# EAGLE library part DOUBLE (library dec-con)
Double-Height DEC board
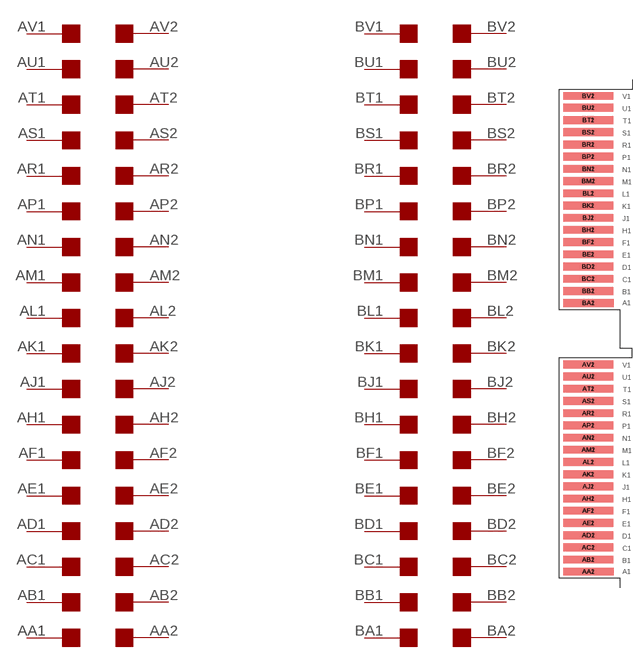
[diagram p5: symbol with the pads of EDGE-CON4; footprint EDGE-CON4]

Designator prefix -; gates AL2=EDGE-RIGHT AM2=EDGE-RIGHT AN2=EDGE-RIGHT AP2=EDGE-RIGHT AR2=EDGE-RIGHT AS2=EDGE-RIGHT AT2=EDGE-RIGHT AK2=EDGE-RIGHT AJ2=EDGE-RIGHT AH2=EDGE-RIGHT AF2=EDGE-RIGHT AE2=EDGE-RIGHT AD2=EDGE-RIGHT AC2=EDGE-RIGHT AU2=EDGE-RIGHT AV2=EDGE-RIGHT AB2=EDGE-RIGHT AA2=EDGE-RIGHT AK1=EDGE-LEFT AL1=EDGE-LEFT AM1=EDGE-LEFT AN1=EDGE-LEFT AP1=EDGE-LEFT AR1=EDGE-LEFT AS1=EDGE-LEFT AT1=EDGE-LEFT AU1=EDGE-LEFT AV1=EDGE-LEFT AJ1=EDGE-LEFT AH1=EDGE-LEFT AF1=EDGE-LEFT AE1=EDGE-LEFT AD1=EDGE-LEFT AC1=EDGE-LEFT AB1=EDGE-LEFT AA1=EDGE-LEFT BV1=EDGE-LEFT BU1=EDGE-LEFT BT1=EDGE-LEFT BS1=EDGE-LEFT BR1=EDGE-LEFT BP1=EDGE-LEFT BN1=EDGE-LEFT BM1=EDGE-LEFT BL1=EDGE-LEFT BK1=EDGE-LEFT BJ1=EDGE-LEFT BH1=EDGE-LEFT BF1=EDGE-LEFT BE1=EDGE-LEFT BD1=EDGE-LEFT BC1=EDGE-LEFT BB1=EDGE-LEFT BA1=EDGE-LEFT BV2=EDGE-RIGHT BU2=EDGE-RIGHT BT2=EDGE-RIGHT BS2=EDGE-RIGHT BR2=EDGE-RIGHT BP2=EDGE-RIGHT BN2=EDGE-RIGHT BM2=EDGE-RIGHT BL2=EDGE-RIGHT BK2=EDGE-RIGHT BJ2=EDGE-RIGHT BH2=EDGE-RIGHT BF2=EDGE-RIGHT BE2=EDGE-RIGHT BD2=EDGE-RIGHT BC2=EDGE-RIGHT BB2=EDGE-RIGHT BA2=EDGE-RIGHT

## DOUBLE  [EDGE-CON4]
AA1  AA1:1  pas
AA2  AA2:1  pas
AB1  AB1:1  pas
AB2  AB2:1  pas
AC1  AC1:1  pas
AC2  AC2:1  pas
AD1  AD1:1  pas
AD2  AD2:1  pas
AE1  AE1:1  pas
AE2  AE2:1  pas
AF1  AF1:1  pas
AF2  AF2:1  pas
AH1  AH1:1  pas
AH2  AH2:1  pas
AJ1  AJ1:1  pas
AJ2  AJ2:1  pas
AK1  AK1:1  pas
AK2  AK2:1  pas
AL1  AL1:1  pas
AL2  AL2:1  pas
AM1  AM1:1  pas
AM2  AM2:1  pas
AN1  AN1:1  pas
AN2  AN2:1  pas
AP1  AP1:1  pas
AP2  AP2:1  pas
AR1  AR1:1  pas
AR2  AR2:1  pas
AS1  AS1:1  pas
AS2  AS2:1  pas
AT1  AT1:1  pas
AT2  AT2:1  pas
AU1  AU1:1  pas
AU2  AU2:1  pas
AV1  AV1:1  pas
AV2  AV2:1  pas
BA1  BA1:1  pas
BA2  BA2:1  pas
BB1  BB1:1  pas
BB2  BB2:1  pas
BC1  BC1:1  pas
BC2  BC2:1  pas
BD1  BD1:1  pas
BD2  BD2:1  pas
BE1  BE1:1  pas
BE2  BE2:1  pas
BF1  BF1:1  pas
BF2  BF2:1  pas
BH1  BH1:1  pas
BH2  BH2:1  pas
BJ1  BJ1:1  pas
BJ2  BJ2:1  pas
BK1  BK1:1  pas
BK2  BK2:1  pas
BL1  BL1:1  pas
BL2  BL2:1  pas
BM1  BM1:1  pas
BM2  BM2:1  pas
BN1  BN1:1  pas
BN2  BN2:1  pas
BP1  BP1:1  pas
BP2  BP2:1  pas
BR1  BR1:1  pas
BR2  BR2:1  pas
BS1  BS1:1  pas
BS2  BS2:1  pas
BT1  BT1:1  pas
BT2  BT2:1  pas
BU1  BU1:1  pas
BU2  BU2:1  pas
BV1  BV1:1  pas
BV2  BV2:1  pas

## Footprint EDGE-CON4 (pad centres in mm)
Double-Height DEC board
smd 13.017 x 2.032: AA1 7.709,4.207; AB1 7.684,7.312; AC1 7.684,10.474; AD1 7.684,13.665; AE1 7.693,16.84; AF1 7.668,20.041; AH1 7.668,23.19; AJ1 7.668,26.34; AK1 7.668,29.515; AL1 7.693,32.69; AM1 7.693,35.89; AN1 7.693,39.04; AP1 7.668,42.24; AR1 7.668,45.39; AS1 7.693,48.565; AT1 7.693,51.74; AU1 7.693,54.94; AV1 7.668,58.026; BA1 7.709,74.057; BB1 7.684,77.162; BC1 7.684,80.324; BD1 7.684,83.515; BE1 7.693,86.69; BF1 7.668,89.891; BH1 7.668,93.04; BJ1 7.668,96.19; BK1 7.668,99.365; BL1 7.693,102.54; BM1 7.693,105.74; BN1 7.693,108.89; BP1 7.668,112.09; BR1 7.668,115.24; BS1 7.693,118.415; BT1 7.693,121.59; BU1 7.693,124.79; BV1 7.668,127.876
smd 13.017 x 2.032 bottom: AA2 7.69,4.207; AB2 7.668,7.328; AC2 7.668,10.49; AD2 7.693,13.665; AE2 7.693,16.84; AF2 7.642,20.041; AH2 7.642,23.19; AJ2 7.668,26.34; AK2 7.668,29.515; AL2 7.693,32.69; AM2 7.693,35.89; AN2 7.693,39.04; AP2 7.668,42.24; AR2 7.668,45.39; AS2 7.693,48.565; AT2 7.693,51.74; AU2 7.693,54.966; AV2 7.668,58.026; BA2 7.69,74.057; BB2 7.668,77.178; BC2 7.668,80.34; BD2 7.693,83.515; BE2 7.693,86.69; BF2 7.642,89.891; BH2 7.642,93.04; BJ2 7.668,96.19; BK2 7.668,99.365; BL2 7.693,102.54; BM2 7.693,105.74; BN2 7.693,108.89; BP2 7.668,112.09; BR2 7.668,115.24; BS2 7.693,118.415; BT2 7.693,121.59; BU2 7.693,124.816; BV2 7.668,127.876